# Altium schematic symbol library MCP73871-1AAI_ML.SchLib: 1 symbol
Pins are listed as number, name and electrical type; pins without a type are passive.

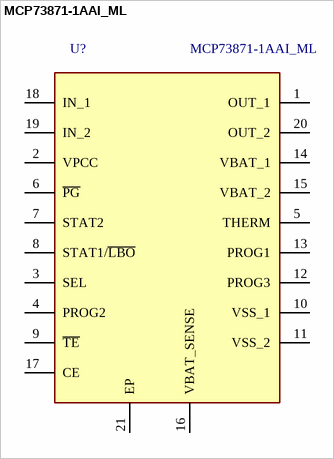
[diagram p0: symbol MCP73871-1AAI_ML]

## MCP73871-1AAI_ML
designator U?
MICROCHIP - MCP73871-1AAI/ML - USB/AC BATTERY CHARGER WITH POWER PATH MANAGEMENT, 20 QFN 4X4X0.9MM TUBE; Geometry.Height: 1mm; Manufacturer_Name: Microchip; Manufacturer_Part_Number: MCP73871-1AAI/ML; Mouser Part Number: 579-MCP73871-1AAI/ML; Mouser Price/Stock: https://www.mouser.co.uk/ProductDetail/Microchip-Technology/MCP73871-1AAI-ML?qs=wd5RIQLrsJigic%252B62l919g%3D%3D; Arrow Part Number: MCP73871-1AAI/ML; Arrow Price/Stock: https://www.arrow.com/en/products/mcp73871-1aaiml/microchip-technology; Datasheet Link: https://www.arrow.com/en/products/mcp73871-1aaiml/microchip-technology
footprint QFN50P400X400X100-21N-D
pins: 1 OUT_1, 2 VPCC, 3 SEL, 4 PROG2, 5 THERM, 6 ~{PG}, 7 STAT2, 8 STAT1/~{LBO}, 9 ~{TE}, 10 VSS_1, 11 VSS_2, 12 PROG3, 13 PROG1, 14 VBAT_1, 15 VBAT_2, 16 VBAT_SENSE, 17 CE, 18 IN_1, 19 IN_2, 20 OUT_2, 21 EP